# EAGLE library part OPA548F (library EW_IC_Op_Amps)
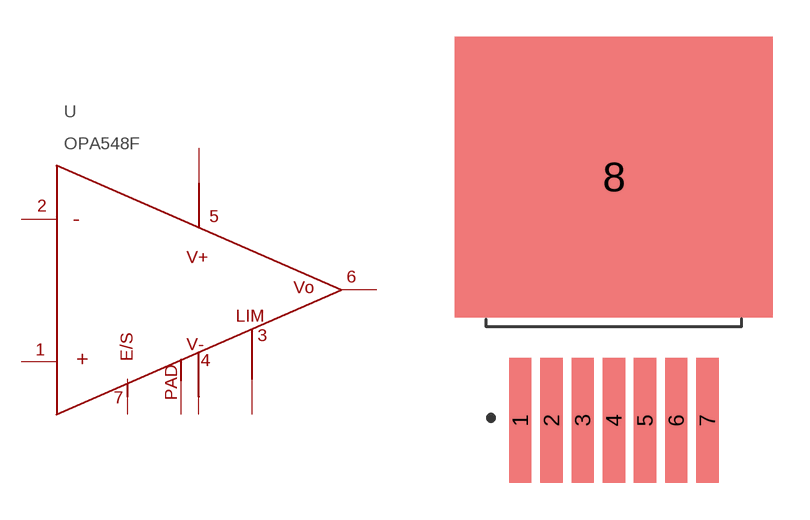
[diagram p4: symbol with the pads of OPA548; footprint OPA548]

Designator prefix U

## OPA548F  [OPA548]
1  1
2  2
3  3
4  4
5  5
6  6
7  7
8  PAD

## Footprint OPA548 (pad centres in mm)
Transistor Outline (TO, DPAK), 1.27 mm pitch; 7 pin, 8.64 mm L X 10.225 mm W X 4.57 mm H body PCB Libraries Packages
smd 0.91 x 5.08: 1 0,0; 2 1.27,0; 3 2.54,0; 4 3.81,0; 5 5.08,0; 6 6.35,0; 7 7.62,0
smd 12.954 x 11.43: 8 3.81,9.921